# Altium schematic symbol library Common_components.SchLib: 30 symbols
Pins are listed as number, name and electrical type; pins without a type are passive.

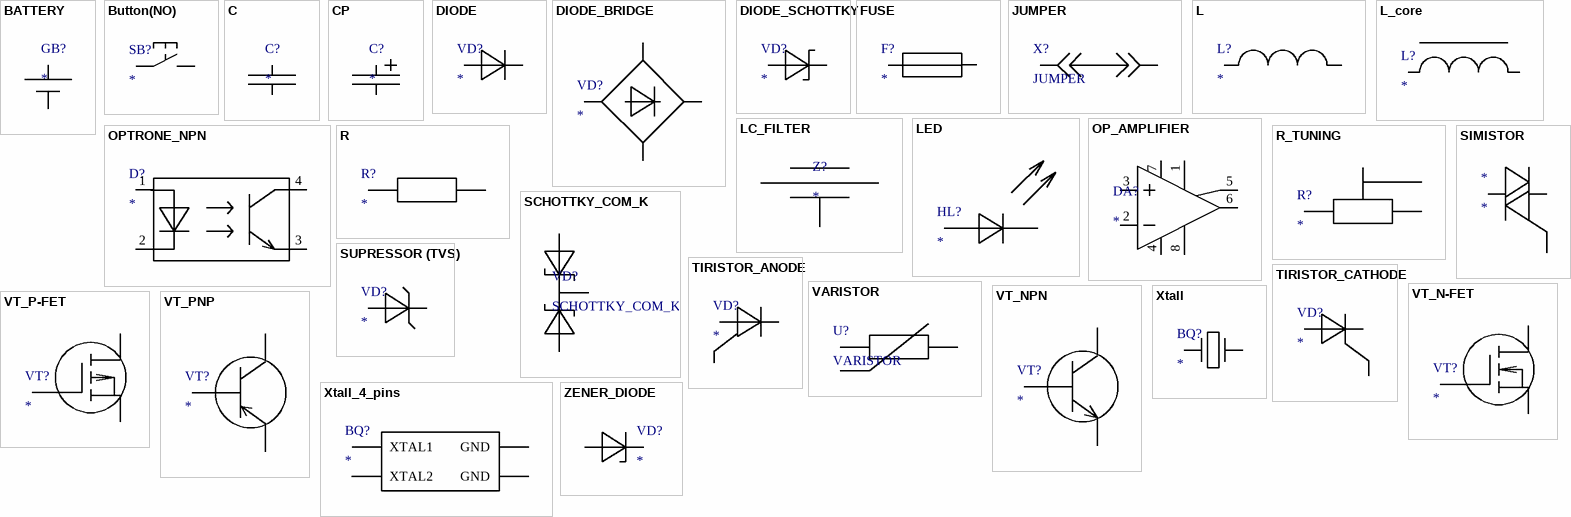
[diagram p0: symbols BATTERY to ZENER_DIODE]

## BATTERY
designator GB?
pins: 1 +, 2 -

## Button(NO)
designator SB?
Type: *; Package: *
pins: 1, 2

## C
designator C?
link: *
pins: 1, 2

## CP
designator C?
link: *
pins: 1, 2

## DIODE
designator VD?
Type: *; U max: *; Package: *
pins: 1 C, 2 A

## DIODE_BRIDGE
designator VD?
pins: 1 C, 2 AC1, 3 AC2, 4 A

## DIODE_SCHOTTKY
designator VD?
Type: *; U max: *; Package: *
pins: 1 C, 2 A

## FUSE
designator F?
pins: 1, 2

## JUMPER
designator X?  (no BOM)
pins: 1, 2

## L
designator L?
link: *
pins: 1, 2

## L_core
designator L?
pins: 1, 2

## LC_FILTER
designator Z?
Type: Фильтр подавления ЭМП; Package: *
pins: 1, 2, 3

## LED
designator HL?
Type: Светодиод; Package: *
pins: 1 A, 2 C

## OP_AMPLIFIER
designator DA?
Type: Операционный усилитель; Package: [DIP-8]
pins: 1, 2, 3, 4, 5, 6, 7, 8

## OPTRONE_NPN
designator D?
Type: *; Package: *
pins: 1, 2, 3, 4

## R
designator R?
link: *
pins: 1, 2

## R_TUNING
designator R?
Type: *; Power disipation: *; smd size: *; tolerance: *; U max: *; Pckage: *
pins: 1, 2, 3

## SCHOTTKY_COM_K
designator VD?
Type: *; U max: *; Package: *
footprint SOT23-3
pins: 1 A, 2 A, 3 K

## SIMISTOR
designator *
pins: 1 A, 2 C, 3 UE

## SUPRESSOR (TVS)
designator VD?
Type: Диод защитный (супрессор); U max: *; Package: *
pins: 1 C, 2 A

## TIRISTOR_ANODE
designator VD?
pins: 1 A, 2 UE, 3 C

## TIRISTOR_CATHODE
designator VD?
pins: 1 A, 2 C, 3 UE

## VARISTOR
designator U?
spec: *
pins: 1, 2
1 alternate drawing of the same symbol

## VT_N-FET
designator VT?
pins: 1 G, 2 D, 3 S

## VT_NPN
designator VT?
pins: 1 B, 2 C, 3 E

## VT_P-FET
designator VT?
pins: 1 G, 2 D, 3 S

## VT_PNP
designator VT?
pins: 1 B, 2 C, 3 E

## Xtall
designator BQ?
Type: *; Package: *
pins: 1 OSC1, 2 OSC2

## Xtall_4_pins
designator BQ?
Type: *; Package: *
pins: 1 XTAL1, 2 GND, 3 XTAL2, 4 GND

## ZENER_DIODE
designator VD?
spec: *
pins: 1 C, 2 A